# EAGLE library part MSC9S08JM* (library freescale)
8-bit microcontroller units (MCUs) low-cost, high-performance MC9S08 Family
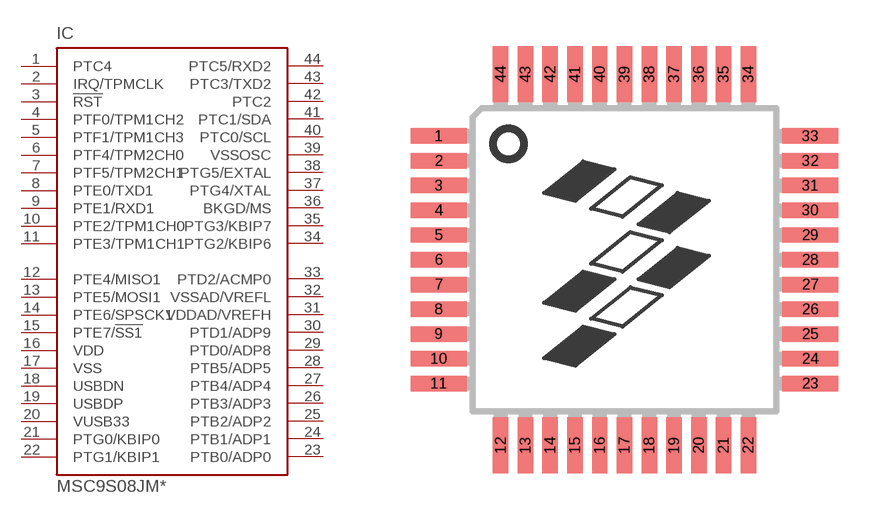
[diagram p4: symbol with the pads of QFP44; footprint QFP44]

Designator prefix IC

## MSC9S08JM60CLD  [QFP44]
1  PTC4
2  IRQ/TPMCLK
3  !RST  in
4  PTF0/TPM1CH2
5  PTF1/TPM1CH3
6  PTF4/TPM2CH0
7  PTF5/TPM2CH1
8  PTE0/TXD1
9  PTE1/RXD1
10  PTE2/TPM1CH0
11  PTE3/TPM1CH1
12  PTE4/MISO1
13  PTE5/MOSI1
14  PTE6/SPSCK1
15  PTE7/!SS1
16  VDD  pwr
17  VSS  pwr
18  USBDN
19  USBDP
20  VUSB33
21  PTG0/KBIP0
22  PTG1/KBIP1
23  PTB0/ADP0
24  PTB1/ADP1  pas
25  PTB2/ADP2  pas
26  PTB3/ADP3
27  PTB4/ADP4
28  PTB5/ADP5
29  PTD0/ADP8
30  PTD1/ADP9
31  VDDAD/VREFH  pwr
32  VSSAD/VREFL  pwr
33  PTD2/ACMP0  pwr
34  PTG2/KBIP6
35  PTG3/KBIP7
36  BKGD/MS
37  PTG4/XTAL
38  PTG5/EXTAL
39  VSSOSC  pwr
40  PTC0/SCL
41  PTC1/SDA
42  PTC2
43  PTC3/TXD2
44  PTC5/RXD2

## Footprint QFP44 (pad centres in mm)
44-Pin QFP (Case #824A) Source: http://www.freescale.com/files/microcontrollers/doc/data_sheet/MC68HC908AP64.pdf
smd 1.8 x 0.5: 1 -6,4; 2 -6,3.2; 3 -6,2.4; 4 -6,1.6; 5 -6,0.8; 6 -6,0; 7 -6,-0.8; 8 -6,-1.6; 9 -6,-2.4; 10 -6,-3.2; 11 -6,-4; 23 6,-4; 24 6,-3.2; 25 6,-2.4; 26 6,-1.6; 27 6,-0.8; 28 6,0; 29 6,0.8; 30 6,1.6; 31 6,2.4; 32 6,3.2; 33 6,4
smd 0.5 x 1.8: 12 -4,-6; 13 -3.2,-6; 14 -2.4,-6; 15 -1.6,-6; 16 -0.8,-6; 17 0,-6; 18 0.8,-6; 19 1.6,-6; 20 2.4,-6; 21 3.2,-6; 22 4,-6; 34 4,6; 35 3.2,6; 36 2.4,6; 37 1.6,6; 38 0.8,6; 39 0,6; 40 -0.8,6; 41 -1.6,6; 42 -2.4,6; 43 -3.2,6; 44 -4,6